# Altium schematic symbol library POT.Schlib: 1 symbol
Pins are listed as number, name and electrical type; pins without a type are passive.

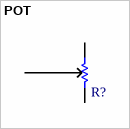
[diagram p0: symbol POT]

## POT
designator R?
Potentiometer
signal-integrity model Res
pins: 1, 2 Wiper, 3
2 alternate drawings of the same symbol